# Altium schematic symbol library ESP8266-01-Breakout.SchLib: 1 symbol
Pins are listed as number, name and electrical type; pins without a type are passive.

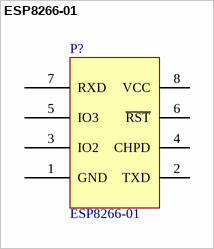
[diagram p0: symbol ESP8266-01]

## ESP8266-01
designator P?
footprint ESP8266-01
pins: 1 GND, 2 TXD, 3 IO2, 4 CHPD, 5 IO3, 6 ~{RST}, 7 RXD, 8 VCC